# Altium integrated library TI Amplifiers and Linear Special Function Amplifier.IntLib: 708 symbols (part 44 of 47)
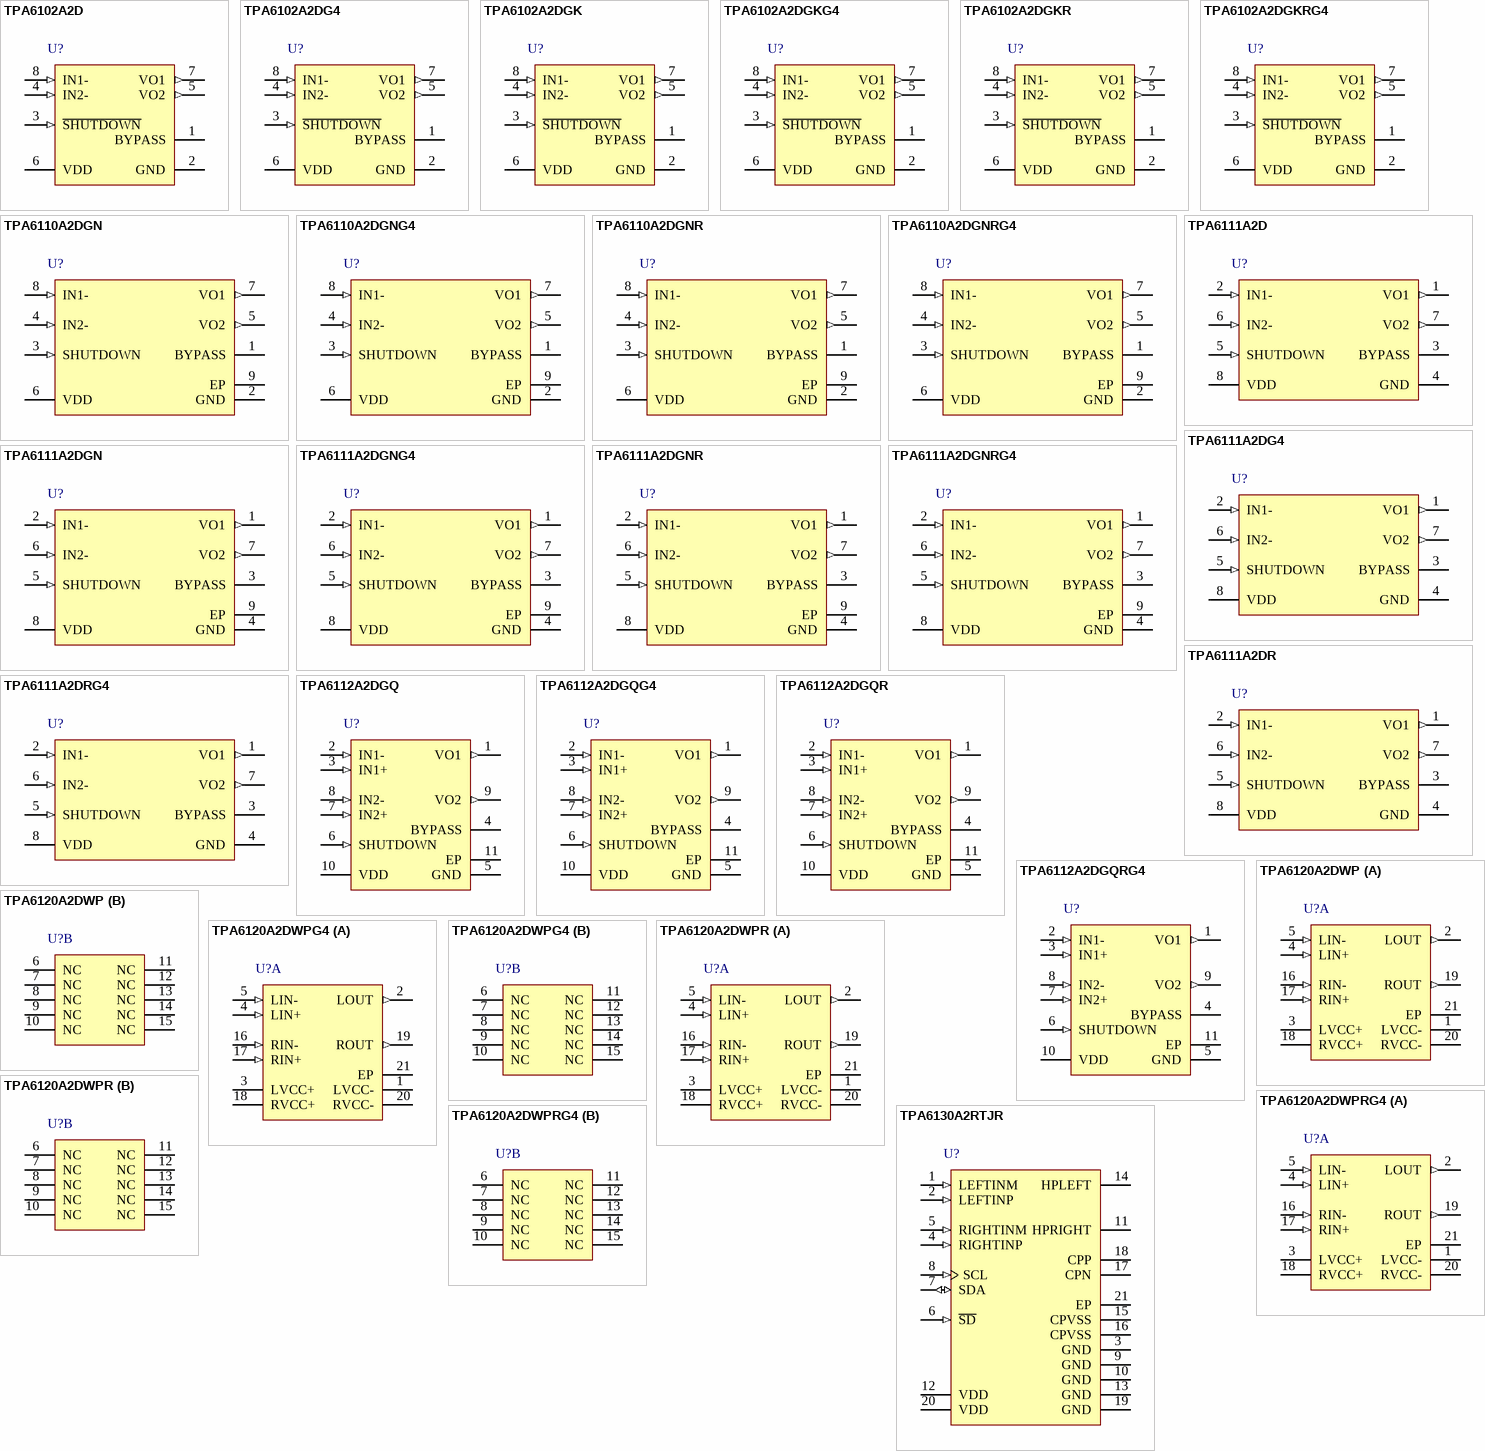
[diagram p82: symbols TPA6102A2D to TPA6130A2RTJR]

## TPA6102A2DGKRG4
designator U?
50-mW Ultra Low-Voltage, Stereo Headphone Audio Amplifier with Fixed Gain (14 dB), -40 to 85 degC, 8-pin SOP (DGK8), Green (RoHS & no Sb/Br); Manufacturer: Texas Instruments; PartNumber: TPA6102A2DGKRG4; ISD(uA): 0.05; Load(Min)(ohms): 16; PSRR(dB): 72; SubFamily: Headphone Amplifier; Supply Max(Max)(Volt): 3.6; Supply Min(Min)(Volt): 1.6; DatasheetVersion: SLOS324B; PackageVersion: 4073329/E, 05/2006; PackageReference: DGK8; PackageDescription: 8-Pin Thin Small Outline, Body 3 x 3 mm, Pitch 0.65 mm; Supplier 1: Digi-Key; Supplier Part Number 1: TPA6102A2DGKRG4-ND; Supplier 2: Newark; Supplier Part Number 2: 54K1502; Supplier 3: Mouser; Supplier Part Number 3: 595-TPA6102A2DGKRG4; Eco-Plan: Green (RoHS & no Sb/Br); Headphone Channels: Stereo; Output Power(W): 0.05; Mounting Technology: Surface Mount; Code_JEDEC: MO-187; ComponentLink1Description: Manufacturer URL; ComponentLink1URL: http://www.ti.com/; ComponentLink2Description: Datasheet; ComponentLink2URL: http://www.ti.com/general/docs/lit/getliterature.tsp?genericPartNumber=TPA6102A2&fileType=pdf; ComponentLink3Description: Package Specification; ComponentLink3URL: http://www.ti.com/litv/pdf/mpds028d
footprint TI-DGK8_N (SOP, 8-Leads, Body 3.1x3.1mm, Pitch 0.65mm, IPC Medium Density)
footprint TI-DGK8_L (SOP, 8-Leads, Body 3.1x3.1mm, Pitch 0.65mm, IPC High Density)
footprint TI-DGK8_M (SOP, 8-Leads, Body 3.1x3.1mm, Pitch 0.65mm, IPC Low Density)
pins: 1 BYPASS "Tap to voltage divider for internal mid-supply bias supply. BYPASS is set at VDD/4. Connect to a 0.1-uF to 1-uF low ESR capacitor for best performance.", 2 GND (power) "GND is the ground connection.", 3 ~{SHUTDOWN} (in) "Active-low input. When held low, the device is placed in a low supply current mode.", 4 IN2- (in) "IN2- is the inverting input for channel 2.", 5 VO2 (out) "VO2 is the audio output for channel 2.", 6 VDD (power) "VDD is the supply voltage terminal.", 7 VO1 (out) "VO1 is the audio output for channel 1.", 8 IN1- (in) "IN1- is the inverting input for channel 1."

## TPA6110A2DGN
designator U?
150-mW Stereo Headphone Audio Amplifier, Pin Compatible with LM4881, -40 to 85 degC, 8-pin SOP (DGN8), Green (RoHS & no Sb/Br); Manufacturer: Texas Instruments; PartNumber: TPA6110A2DGN; ISD(uA): 1; Load(Min)(ohms): 16; Output Power(W): 0.15; PSRR(dB): 83; SubFamily: Headphone Amplifier; Supply Max(Max)(Volt): 5.5; Supply Min(Min)(Volt): 2.5; DatasheetVersion: SLOS314B; PackageVersion: 4073271/F, 05/2011; PackageReference: DGN8-1760X1425TP; PackageDescription: 8-Pin Plastic Small Outline, Body 3 x 3 mm, Pitch 0.65 mm; Supplier 1: Digi-Key; Supplier Part Number 1: 296-10843-5-ND; Supplier 2: Newark; Supplier Part Number 2: 76C9841; Supplier 3: Mouser; Supplier Part Number 3: 595-TPA6110A2DGN; Eco-Plan: Green (RoHS & no Sb/Br); Headphone Channels: Stereo; Mounting Technology: Surface Mount; Code_JEDEC: MO-187; ComponentLink1Description: Manufacturer URL; ComponentLink1URL: http://www.ti.com/; ComponentLink2Description: Datasheet; ComponentLink2URL: http://www.ti.com/general/docs/lit/getliterature.tsp?genericPartNumber=TPA6110A2&fileType=pdf; ComponentLink3Description: Package Specification; ComponentLink3URL: http://www.ti.com/litv/pdf/mpds046e
footprint TI-DGN8-1760X1425TP_N (SOP, 8-Leads, Body 3.1x3.1mm, Pitch 0.65mm, Thermal Pad 1.89x1.57mm, IPC Medium Density)
footprint TI-DGN8-1760X1425TP_L (SOP, 8-Leads, Body 3.1x3.1mm, Pitch 0.65mm, Thermal Pad 1.89x1.57mm, IPC High Density)
footprint TI-DGN8-1760X1425TP_M (SOP, 8-Leads, Body 3.1x3.1mm, Pitch 0.65mm, Thermal Pad 1.89x1.57mm, IPC Low Density)
pins: 1 BYPASS "Tap to voltage divider for internal mid-supply bias supply. Connect to a 0.1 uF to 1 uF low ESR capacitor for best performance.", 2 GND (power) "GND is the ground connection.", 3 SHUTDOWN (in) "Puts the device in a low quiescent current mode when held high.", 4 IN2- (in) "IN2- is the inverting input for channel 2.", 5 VO2 (out) "VO2 is the audio output for channel 2.", 6 VDD (power) "VDD is the supply voltage terminal.", 7 VO1 (out) "VO1 is the audio output for channel 1.", 8 IN1- (in) "IN1- is the inverting input for channel 1.", 9 EP

## TPA6110A2DGNG4
designator U?
150-mW Stereo Headphone Audio Amplifier, Pin Compatible with LM4881, -40 to 85 degC, 8-pin SOP (DGN8), Green (RoHS & no Sb/Br); Manufacturer: Texas Instruments; PartNumber: TPA6110A2DGNG4; ISD(uA): 1; Load(Min)(ohms): 16; Output Power(W): 0.15; PSRR(dB): 83; SubFamily: Headphone Amplifier; Supply Max(Max)(Volt): 5.5; Supply Min(Min)(Volt): 2.5; DatasheetVersion: SLOS314B; PackageVersion: 4073271/F, 05/2011; PackageReference: DGN8-1760X1425TP; PackageDescription: 8-Pin Plastic Small Outline, Body 3 x 3 mm, Pitch 0.65 mm; Supplier 1: Digi-Key; Supplier Part Number 1: TPA6110A2DGNG4-ND; Supplier 2: Newark; Supplier Part Number 2: 58K6879; Supplier 3: Mouser; Supplier Part Number 3: 595-TPA6110A2DGNG4; Eco-Plan: Green (RoHS & no Sb/Br); Headphone Channels: Stereo; Mounting Technology: Surface Mount; Code_JEDEC: MO-187; ComponentLink1Description: Manufacturer URL; ComponentLink1URL: http://www.ti.com/; ComponentLink2Description: Datasheet; ComponentLink2URL: http://www.ti.com/general/docs/lit/getliterature.tsp?genericPartNumber=TPA6110A2&fileType=pdf; ComponentLink3Description: Package Specification; ComponentLink3URL: http://www.ti.com/litv/pdf/mpds046e
footprint TI-DGN8-1760X1425TP_N (SOP, 8-Leads, Body 3.1x3.1mm, Pitch 0.65mm, Thermal Pad 1.89x1.57mm, IPC Medium Density)
footprint TI-DGN8-1760X1425TP_L (SOP, 8-Leads, Body 3.1x3.1mm, Pitch 0.65mm, Thermal Pad 1.89x1.57mm, IPC High Density)
footprint TI-DGN8-1760X1425TP_M (SOP, 8-Leads, Body 3.1x3.1mm, Pitch 0.65mm, Thermal Pad 1.89x1.57mm, IPC Low Density)
pins: 1 BYPASS "Tap to voltage divider for internal mid-supply bias supply. Connect to a 0.1 uF to 1 uF low ESR capacitor for best performance.", 2 GND (power) "GND is the ground connection.", 3 SHUTDOWN (in) "Puts the device in a low quiescent current mode when held high.", 4 IN2- (in) "IN2- is the inverting input for channel 2.", 5 VO2 (out) "VO2 is the audio output for channel 2.", 6 VDD (power) "VDD is the supply voltage terminal.", 7 VO1 (out) "VO1 is the audio output for channel 1.", 8 IN1- (in) "IN1- is the inverting input for channel 1.", 9 EP

## TPA6110A2DGNR
designator U?
150-mW Stereo Headphone Audio Amplifier, Pin Compatible with LM4881, -40 to 85 degC, 8-pin SOP (DGN8), Green (RoHS & no Sb/Br); Manufacturer: Texas Instruments; PartNumber: TPA6110A2DGNR; ISD(uA): 1; Load(Min)(ohms): 16; Output Power(W): 0.15; PSRR(dB): 83; SubFamily: Headphone Amplifier; Supply Max(Max)(Volt): 5.5; Supply Min(Min)(Volt): 2.5; DatasheetVersion: SLOS314B; PackageVersion: 4073271/F, 05/2011; PackageReference: DGN8-1760X1425TP; PackageDescription: 8-Pin Plastic Small Outline, Body 3 x 3 mm, Pitch 0.65 mm; Supplier 1: Digi-Key; Supplier Part Number 1: 296-31976-2-ND; Supplier 2: Digi-Key; Supplier Part Number 2: 296-31976-1-ND; Supplier 3: Digi-Key; Supplier Part Number 3: 296-31976-6-ND; Supplier 4: Newark; Supplier Part Number 4: 76C9842; Supplier 5: Mouser; Supplier Part Number 5: 595-TPA6110A2DGNR; Eco-Plan: Green (RoHS & no Sb/Br); Headphone Channels: Stereo; Mounting Technology: Surface Mount; Code_JEDEC: MO-187; ComponentLink1Description: Manufacturer URL; ComponentLink1URL: http://www.ti.com/; ComponentLink2Description: Datasheet; ComponentLink2URL: http://www.ti.com/general/docs/lit/getliterature.tsp?genericPartNumber=TPA6110A2&fileType=pdf; ComponentLink3Description: Package Specification; ComponentLink3URL: http://www.ti.com/litv/pdf/mpds046e
footprint TI-DGN8-1760X1425TP_N (SOP, 8-Leads, Body 3.1x3.1mm, Pitch 0.65mm, Thermal Pad 1.89x1.57mm, IPC Medium Density)
footprint TI-DGN8-1760X1425TP_L (SOP, 8-Leads, Body 3.1x3.1mm, Pitch 0.65mm, Thermal Pad 1.89x1.57mm, IPC High Density)
footprint TI-DGN8-1760X1425TP_M (SOP, 8-Leads, Body 3.1x3.1mm, Pitch 0.65mm, Thermal Pad 1.89x1.57mm, IPC Low Density)
pins: 1 BYPASS "Tap to voltage divider for internal mid-supply bias supply. Connect to a 0.1 uF to 1 uF low ESR capacitor for best performance.", 2 GND (power) "GND is the ground connection.", 3 SHUTDOWN (in) "Puts the device in a low quiescent current mode when held high.", 4 IN2- (in) "IN2- is the inverting input for channel 2.", 5 VO2 (out) "VO2 is the audio output for channel 2.", 6 VDD (power) "VDD is the supply voltage terminal.", 7 VO1 (out) "VO1 is the audio output for channel 1.", 8 IN1- (in) "IN1- is the inverting input for channel 1.", 9 EP

## TPA6110A2DGNRG4
designator U?
150-mW Stereo Headphone Audio Amplifier, Pin Compatible with LM4881, -40 to 85 degC, 8-pin SOP (DGN8), Green (RoHS & no Sb/Br); Manufacturer: Texas Instruments; PartNumber: TPA6110A2DGNRG4; ISD(uA): 1; Load(Min)(ohms): 16; Output Power(W): 0.15; PSRR(dB): 83; SubFamily: Headphone Amplifier; Supply Max(Max)(Volt): 5.5; Supply Min(Min)(Volt): 2.5; DatasheetVersion: SLOS314B; PackageVersion: 4073271/F, 05/2011; PackageReference: DGN8-1760X1425TP; PackageDescription: 8-Pin Plastic Small Outline, Body 3 x 3 mm, Pitch 0.65 mm; Supplier 1: Digi-Key; Supplier Part Number 1: TPA6110A2DGNRG4-ND; Supplier 2: Newark; Supplier Part Number 2: 24K5790; Supplier 3: Mouser; Supplier Part Number 3: 595-TPA6110A2DGNRG4; Eco-Plan: Green (RoHS & no Sb/Br); Headphone Channels: Stereo; Mounting Technology: Surface Mount; Code_JEDEC: MO-187; ComponentLink1Description: Manufacturer URL; ComponentLink1URL: http://www.ti.com/; ComponentLink2Description: Datasheet; ComponentLink2URL: http://www.ti.com/general/docs/lit/getliterature.tsp?genericPartNumber=TPA6110A2&fileType=pdf; ComponentLink3Description: Package Specification; ComponentLink3URL: http://www.ti.com/litv/pdf/mpds046e
footprint TI-DGN8-1760X1425TP_N (SOP, 8-Leads, Body 3.1x3.1mm, Pitch 0.65mm, Thermal Pad 1.89x1.57mm, IPC Medium Density)
footprint TI-DGN8-1760X1425TP_L (SOP, 8-Leads, Body 3.1x3.1mm, Pitch 0.65mm, Thermal Pad 1.89x1.57mm, IPC High Density)
footprint TI-DGN8-1760X1425TP_M (SOP, 8-Leads, Body 3.1x3.1mm, Pitch 0.65mm, Thermal Pad 1.89x1.57mm, IPC Low Density)
pins: 1 BYPASS "Tap to voltage divider for internal mid-supply bias supply. Connect to a 0.1 uF to 1 uF low ESR capacitor for best performance.", 2 GND (power) "GND is the ground connection.", 3 SHUTDOWN (in) "Puts the device in a low quiescent current mode when held high.", 4 IN2- (in) "IN2- is the inverting input for channel 2.", 5 VO2 (out) "VO2 is the audio output for channel 2.", 6 VDD (power) "VDD is the supply voltage terminal.", 7 VO1 (out) "VO1 is the audio output for channel 1.", 8 IN1- (in) "IN1- is the inverting input for channel 1.", 9 EP

## TPA6111A2D
designator U?
150-mW Stereo Headphone Audio Amplifier, Pin Compatible with LM4880 and LM4881, -40 to 85 degC, 8-pin SOIC (D8), Green (RoHS & no Sb/Br); Manufacturer: Texas Instruments; PartNumber: TPA6111A2D; ISD(uA): 1; Load(Min)(ohms): 16; Output Power(W): 0.15; PSRR(dB): 70; SubFamily: Headphone Amplifier; Supply Max(Max)(Volt): 5.5; Supply Min(Min)(Volt): 2.5; DatasheetVersion: SLOS313B; PackageVersion: 4040047-3/M, 06/2011; PackageReference: D8; PackageDescription: 8-Pin Plastic Small Outline, Body 4.9 x 3.9 mm, Pitch 1.27 mm; Supplier 1: Digi-Key; Supplier Part Number 1: 296-26887-5-ND; Supplier 2: Farnell; Supplier Part Number 2: 8456593; Supplier 3: Newark; Supplier Part Number 3: 38K8607; Supplier 4: Newark; Supplier Part Number 4: 76C9844; Supplier 5: Mouser; Supplier Part Number 5: 595-TPA6111A2D; Eco-Plan: Green (RoHS & no Sb/Br); Headphone Channels: Stereo; Mounting Technology: Surface Mount; Code_JEDEC: MS-012; ComponentLink1Description: Manufacturer URL; ComponentLink1URL: http://www.ti.com/; ComponentLink2Description: Datasheet; ComponentLink2URL: http://www.ti.com/general/docs/lit/getliterature.tsp?genericPartNumber=TPA6111A2&fileType=pdf; ComponentLink3Description: Package Specification; ComponentLink3URL: http://www.ti.com/litv/pdf/msoi002j
footprint TI-D8_N (SOIC, 8-Leads, Body 5x4mm, Pitch 1.27mm, IPC Medium Density)
footprint TI-D8_L (SOIC, 8-Leads, Body 5x4mm, Pitch 1.27mm, IPC High Density)
footprint TI-D8_M (SOIC, 8-Leads, Body 5x4mm, Pitch 1.27mm, IPC Low Density)
pins: 1 VO1 (out) "VO1 is the audio output for channel 1.", 2 IN1- (in) "IN1- is the inverting input for channel 1.", 3 BYPASS "Tap to voltage divider for internal mid-supply bias supply. Connect to a 0.1 uF to 1 uF low ESR capacitor for best performance.", 4 GND (power) "GND is the ground connection.", 5 SHUTDOWN (in) "Puts the device in a low quiescent current mode when held high", 6 IN2- (in) "IN2- is the inverting input for channel 2.", 7 VO2 (out) "VO2 is the audio output for channel 2.", 8 VDD (power) "VDD is the supply voltage terminal."

## TPA6111A2DG4
designator U?
150-mW Stereo Headphone Audio Amplifier, Pin Compatible with LM4880 and LM4881, -40 to 85 degC, 8-pin SOIC (D8), Green (RoHS & no Sb/Br); Manufacturer: Texas Instruments; PartNumber: TPA6111A2DG4; ISD(uA): 1; Load(Min)(ohms): 16; Output Power(W): 0.15; PSRR(dB): 70; SubFamily: Headphone Amplifier; Supply Max(Max)(Volt): 5.5; Supply Min(Min)(Volt): 2.5; DatasheetVersion: SLOS313B; PackageVersion: 4040047-3/M, 06/2011; PackageReference: D8; PackageDescription: 8-Pin Plastic Small Outline, Body 4.9 x 3.9 mm, Pitch 1.27 mm; Supplier 1: Digi-Key; Supplier Part Number 1: TPA6111A2DG4-ND; Supplier 2: Mouser; Supplier Part Number 2: 595-TPA6111A2DG4; Eco-Plan: Green (RoHS & no Sb/Br); Headphone Channels: Stereo; Mounting Technology: Surface Mount; Code_JEDEC: MS-012; ComponentLink1Description: Manufacturer URL; ComponentLink1URL: http://www.ti.com/; ComponentLink2Description: Datasheet; ComponentLink2URL: http://www.ti.com/general/docs/lit/getliterature.tsp?genericPartNumber=TPA6111A2&fileType=pdf; ComponentLink3Description: Package Specification; ComponentLink3URL: http://www.ti.com/litv/pdf/msoi002j
footprint TI-D8_N (SOIC, 8-Leads, Body 5x4mm, Pitch 1.27mm, IPC Medium Density)
footprint TI-D8_L (SOIC, 8-Leads, Body 5x4mm, Pitch 1.27mm, IPC High Density)
footprint TI-D8_M (SOIC, 8-Leads, Body 5x4mm, Pitch 1.27mm, IPC Low Density)
pins: 1 VO1 (out) "VO1 is the audio output for channel 1.", 2 IN1- (in) "IN1- is the inverting input for channel 1.", 3 BYPASS "Tap to voltage divider for internal mid-supply bias supply. Connect to a 0.1 uF to 1 uF low ESR capacitor for best performance.", 4 GND (power) "GND is the ground connection.", 5 SHUTDOWN (in) "Puts the device in a low quiescent current mode when held high", 6 IN2- (in) "IN2- is the inverting input for channel 2.", 7 VO2 (out) "VO2 is the audio output for channel 2.", 8 VDD (power) "VDD is the supply voltage terminal."

## TPA6111A2DGN
designator U?
150-mW Stereo Headphone Audio Amplifier, Pin Compatible with LM4880 and LM4881, -40 to 85 degC, 8-pin SOP (DGN8), Green (RoHS & no Sb/Br); Manufacturer: Texas Instruments; PartNumber: TPA6111A2DGN; ISD(uA): 1; Load(Min)(ohms): 16; Output Power(W): 0.15; PSRR(dB): 70; SubFamily: Headphone Amplifier; Supply Max(Max)(Volt): 5.5; Supply Min(Min)(Volt): 2.5; DatasheetVersion: SLOS313B; PackageVersion: 4073271/F, 05/2011; PackageReference: DGN8-1760X1425TP; PackageDescription: 8-Pin Plastic Small Outline, Body 3 x 3 mm, Pitch 0.65 mm; Supplier 1: Digi-Key; Supplier Part Number 1: 296-10845-5-ND; Supplier 2: Newark; Supplier Part Number 2: 76C9845; Supplier 3: Mouser; Supplier Part Number 3: 595-TPA6111A2DGN; Eco-Plan: Green (RoHS & no Sb/Br); Headphone Channels: Stereo; Mounting Technology: Surface Mount; Code_JEDEC: MO-187; ComponentLink1Description: Manufacturer URL; ComponentLink1URL: http://www.ti.com/; ComponentLink2Description: Datasheet; ComponentLink2URL: http://www.ti.com/general/docs/lit/getliterature.tsp?genericPartNumber=TPA6111A2&fileType=pdf; ComponentLink3Description: Package Specification; ComponentLink3URL: http://www.ti.com/litv/pdf/mpds046e
footprint TI-DGN8-1760X1425TP_N (SOP, 8-Leads, Body 3.1x3.1mm, Pitch 0.65mm, Thermal Pad 1.89x1.57mm, IPC Medium Density)
footprint TI-DGN8-1760X1425TP_L (SOP, 8-Leads, Body 3.1x3.1mm, Pitch 0.65mm, Thermal Pad 1.89x1.57mm, IPC High Density)
footprint TI-DGN8-1760X1425TP_M (SOP, 8-Leads, Body 3.1x3.1mm, Pitch 0.65mm, Thermal Pad 1.89x1.57mm, IPC Low Density)
pins: 1 VO1 (out) "VO1 is the audio output for channel 1.", 2 IN1- (in) "IN1- is the inverting input for channel 1.", 3 BYPASS "Tap to voltage divider for internal mid-supply bias supply. Connect to a 0.1 uF to 1 uF low ESR capacitor for best performance.", 4 GND (power) "GND is the ground connection.", 5 SHUTDOWN (in) "Puts the device in a low quiescent current mode when held high", 6 IN2- (in) "IN2- is the inverting input for channel 2.", 7 VO2 (out) "VO2 is the audio output for channel 2.", 8 VDD (power) "VDD is the supply voltage terminal.", 9 EP

## TPA6111A2DGNG4
designator U?
150-mW Stereo Headphone Audio Amplifier, Pin Compatible with LM4880 and LM4881, -40 to 85 degC, 8-pin SOP (DGN8), Green (RoHS & no Sb/Br); Manufacturer: Texas Instruments; PartNumber: TPA6111A2DGNG4; ISD(uA): 1; Load(Min)(ohms): 16; Output Power(W): 0.15; PSRR(dB): 70; SubFamily: Headphone Amplifier; Supply Max(Max)(Volt): 5.5; Supply Min(Min)(Volt): 2.5; DatasheetVersion: SLOS313B; PackageVersion: 4073271/F, 05/2011; PackageReference: DGN8-1760X1425TP; PackageDescription: 8-Pin Plastic Small Outline, Body 3 x 3 mm, Pitch 0.65 mm; Supplier 1: Digi-Key; Supplier Part Number 1: TPA6111A2DGNG4-ND; Supplier 2: Mouser; Supplier Part Number 2: 595-TPA6111A2DGNG4; Eco-Plan: Green (RoHS & no Sb/Br); Headphone Channels: Stereo; Mounting Technology: Surface Mount; Code_JEDEC: MO-187; ComponentLink1Description: Manufacturer URL; ComponentLink1URL: http://www.ti.com/; ComponentLink2Description: Datasheet; ComponentLink2URL: http://www.ti.com/general/docs/lit/getliterature.tsp?genericPartNumber=TPA6111A2&fileType=pdf; ComponentLink3Description: Package Specification; ComponentLink3URL: http://www.ti.com/litv/pdf/mpds046e
footprint TI-DGN8-1760X1425TP_N (SOP, 8-Leads, Body 3.1x3.1mm, Pitch 0.65mm, Thermal Pad 1.89x1.57mm, IPC Medium Density)
footprint TI-DGN8-1760X1425TP_L (SOP, 8-Leads, Body 3.1x3.1mm, Pitch 0.65mm, Thermal Pad 1.89x1.57mm, IPC High Density)
footprint TI-DGN8-1760X1425TP_M (SOP, 8-Leads, Body 3.1x3.1mm, Pitch 0.65mm, Thermal Pad 1.89x1.57mm, IPC Low Density)
pins: 1 VO1 (out) "VO1 is the audio output for channel 1.", 2 IN1- (in) "IN1- is the inverting input for channel 1.", 3 BYPASS "Tap to voltage divider for internal mid-supply bias supply. Connect to a 0.1 uF to 1 uF low ESR capacitor for best performance.", 4 GND (power) "GND is the ground connection.", 5 SHUTDOWN (in) "Puts the device in a low quiescent current mode when held high", 6 IN2- (in) "IN2- is the inverting input for channel 2.", 7 VO2 (out) "VO2 is the audio output for channel 2.", 8 VDD (power) "VDD is the supply voltage terminal.", 9 EP

## TPA6111A2DGNR
designator U?
150-mW Stereo Headphone Audio Amplifier, Pin Compatible with LM4880 and LM4881, -40 to 85 degC, 8-pin SOP (DGN8), Green (RoHS & no Sb/Br); Manufacturer: Texas Instruments; PartNumber: TPA6111A2DGNR; ISD(uA): 1; Load(Min)(ohms): 16; Output Power(W): 0.15; PSRR(dB): 70; SubFamily: Headphone Amplifier; Supply Max(Max)(Volt): 5.5; Supply Min(Min)(Volt): 2.5; DatasheetVersion: SLOS313B; PackageVersion: 4073271/F, 05/2011; PackageReference: DGN8-1760X1425TP; PackageDescription: 8-Pin Plastic Small Outline, Body 3 x 3 mm, Pitch 0.65 mm; Supplier 1: Digi-Key; Supplier Part Number 1: TPA6111A2DGNR-ND; Supplier 2: Newark; Supplier Part Number 2: 76C9846; Supplier 3: Mouser; Supplier Part Number 3: 595-TPA6111A2DGNR; Eco-Plan: Green (RoHS & no Sb/Br); Headphone Channels: Stereo; Mounting Technology: Surface Mount; Code_JEDEC: MO-187; ComponentLink1Description: Manufacturer URL; ComponentLink1URL: http://www.ti.com/; ComponentLink2Description: Datasheet; ComponentLink2URL: http://www.ti.com/general/docs/lit/getliterature.tsp?genericPartNumber=TPA6111A2&fileType=pdf; ComponentLink3Description: Package Specification; ComponentLink3URL: http://www.ti.com/litv/pdf/mpds046e
footprint TI-DGN8-1760X1425TP_N (SOP, 8-Leads, Body 3.1x3.1mm, Pitch 0.65mm, Thermal Pad 1.89x1.57mm, IPC Medium Density)
footprint TI-DGN8-1760X1425TP_L (SOP, 8-Leads, Body 3.1x3.1mm, Pitch 0.65mm, Thermal Pad 1.89x1.57mm, IPC High Density)
footprint TI-DGN8-1760X1425TP_M (SOP, 8-Leads, Body 3.1x3.1mm, Pitch 0.65mm, Thermal Pad 1.89x1.57mm, IPC Low Density)
pins: 1 VO1 (out) "VO1 is the audio output for channel 1.", 2 IN1- (in) "IN1- is the inverting input for channel 1.", 3 BYPASS "Tap to voltage divider for internal mid-supply bias supply. Connect to a 0.1 uF to 1 uF low ESR capacitor for best performance.", 4 GND (power) "GND is the ground connection.", 5 SHUTDOWN (in) "Puts the device in a low quiescent current mode when held high", 6 IN2- (in) "IN2- is the inverting input for channel 2.", 7 VO2 (out) "VO2 is the audio output for channel 2.", 8 VDD (power) "VDD is the supply voltage terminal.", 9 EP

## TPA6111A2DGNRG4
designator U?
150-mW Stereo Headphone Audio Amplifier, Pin Compatible with LM4880 and LM4881, -40 to 85 degC, 8-pin SOP (DGN8), Green (RoHS & no Sb/Br); Manufacturer: Texas Instruments; PartNumber: TPA6111A2DGNRG4; ISD(uA): 1; Load(Min)(ohms): 16; Output Power(W): 0.15; PSRR(dB): 70; SubFamily: Headphone Amplifier; Supply Max(Max)(Volt): 5.5; Supply Min(Min)(Volt): 2.5; DatasheetVersion: SLOS313B; PackageVersion: 4073271/F, 05/2011; PackageReference: DGN8-1760X1425TP; PackageDescription: 8-Pin Plastic Small Outline, Body 3 x 3 mm, Pitch 0.65 mm; Supplier 1: Digi-Key; Supplier Part Number 1: TPA6111A2DGNRG4-ND; Supplier 2: Mouser; Supplier Part Number 2: 595-TPA6111A2DGNRG4; Eco-Plan: Green (RoHS & no Sb/Br); Headphone Channels: Stereo; Mounting Technology: Surface Mount; Code_JEDEC: MO-187; ComponentLink1Description: Manufacturer URL; ComponentLink1URL: http://www.ti.com/; ComponentLink2Description: Datasheet; ComponentLink2URL: http://www.ti.com/general/docs/lit/getliterature.tsp?genericPartNumber=TPA6111A2&fileType=pdf; ComponentLink3Description: Package Specification; ComponentLink3URL: http://www.ti.com/litv/pdf/mpds046e
footprint TI-DGN8-1760X1425TP_N (SOP, 8-Leads, Body 3.1x3.1mm, Pitch 0.65mm, Thermal Pad 1.89x1.57mm, IPC Medium Density)
footprint TI-DGN8-1760X1425TP_L (SOP, 8-Leads, Body 3.1x3.1mm, Pitch 0.65mm, Thermal Pad 1.89x1.57mm, IPC High Density)
footprint TI-DGN8-1760X1425TP_M (SOP, 8-Leads, Body 3.1x3.1mm, Pitch 0.65mm, Thermal Pad 1.89x1.57mm, IPC Low Density)
pins: 1 VO1 (out) "VO1 is the audio output for channel 1.", 2 IN1- (in) "IN1- is the inverting input for channel 1.", 3 BYPASS "Tap to voltage divider for internal mid-supply bias supply. Connect to a 0.1 uF to 1 uF low ESR capacitor for best performance.", 4 GND (power) "GND is the ground connection.", 5 SHUTDOWN (in) "Puts the device in a low quiescent current mode when held high", 6 IN2- (in) "IN2- is the inverting input for channel 2.", 7 VO2 (out) "VO2 is the audio output for channel 2.", 8 VDD (power) "VDD is the supply voltage terminal.", 9 EP

## TPA6111A2DR
designator U?
150-mW Stereo Headphone Audio Amplifier, Pin Compatible with LM4880 and LM4881, -40 to 85 degC, 8-pin SOIC (D8), Green (RoHS & no Sb/Br); Manufacturer: Texas Instruments; PartNumber: TPA6111A2DR; ISD(uA): 1; Load(Min)(ohms): 16; Output Power(W): 0.15; PSRR(dB): 70; SubFamily: Headphone Amplifier; Supply Max(Max)(Volt): 5.5; Supply Min(Min)(Volt): 2.5; DatasheetVersion: SLOS313B; PackageVersion: 4040047-3/M, 06/2011; PackageReference: D8; PackageDescription: 8-Pin Plastic Small Outline, Body 4.9 x 3.9 mm, Pitch 1.27 mm; Supplier 1: Digi-Key; Supplier Part Number 1: 296-10846-2-ND; Supplier 2: Digi-Key; Supplier Part Number 2: 296-10846-1-ND; Supplier 3: Digi-Key; Supplier Part Number 3: 296-10846-6-ND; Supplier 4: Newark; Supplier Part Number 4: 86W6773; Supplier 5: Newark; Supplier Part Number 5: 76C9847; Supplier 6: Mouser; Supplier Part Number 6: 595-TPA6111A2DR; Eco-Plan: Green (RoHS & no Sb/Br); Headphone Channels: Stereo; Mounting Technology: Surface Mount; Code_JEDEC: MS-012; ComponentLink1Description: Manufacturer URL; ComponentLink1URL: http://www.ti.com/; ComponentLink2Description: Datasheet; ComponentLink2URL: http://www.ti.com/general/docs/lit/getliterature.tsp?genericPartNumber=TPA6111A2&fileType=pdf; ComponentLink3Description: Package Specification; ComponentLink3URL: http://www.ti.com/litv/pdf/msoi002j
footprint TI-D8_N (SOIC, 8-Leads, Body 5x4mm, Pitch 1.27mm, IPC Medium Density)
footprint TI-D8_L (SOIC, 8-Leads, Body 5x4mm, Pitch 1.27mm, IPC High Density)
footprint TI-D8_M (SOIC, 8-Leads, Body 5x4mm, Pitch 1.27mm, IPC Low Density)
pins: 1 VO1 (out) "VO1 is the audio output for channel 1.", 2 IN1- (in) "IN1- is the inverting input for channel 1.", 3 BYPASS "Tap to voltage divider for internal mid-supply bias supply. Connect to a 0.1 uF to 1 uF low ESR capacitor for best performance.", 4 GND (power) "GND is the ground connection.", 5 SHUTDOWN (in) "Puts the device in a low quiescent current mode when held high", 6 IN2- (in) "IN2- is the inverting input for channel 2.", 7 VO2 (out) "VO2 is the audio output for channel 2.", 8 VDD (power) "VDD is the supply voltage terminal."

## TPA6111A2DRG4
designator U?
150-mW Stereo Headphone Audio Amplifier, Pin Compatible with LM4880 and LM4881, -40 to 85 degC, 8-pin SOIC (D8), Green (RoHS & no Sb/Br); Manufacturer: Texas Instruments; PartNumber: TPA6111A2DRG4; ISD(uA): 1; Load(Min)(ohms): 16; Output Power(W): 0.15; PSRR(dB): 70; SubFamily: Headphone Amplifier; Supply Max(Max)(Volt): 5.5; Supply Min(Min)(Volt): 2.5; DatasheetVersion: SLOS313B; PackageVersion: 4040047-3/M, 06/2011; PackageReference: D8; PackageDescription: 8-Pin Plastic Small Outline, Body 4.9 x 3.9 mm, Pitch 1.27 mm; Supplier 1: Digi-Key; Supplier Part Number 1: TPA6111A2DRG4-ND; Supplier 2: Mouser; Supplier Part Number 2: 595-TPA6111A2DRG4; Eco-Plan: Green (RoHS & no Sb/Br); Headphone Channels: Stereo; Mounting Technology: Surface Mount; Code_JEDEC: MS-012; ComponentLink1Description: Manufacturer URL; ComponentLink1URL: http://www.ti.com/; ComponentLink2Description: Datasheet; ComponentLink2URL: http://www.ti.com/general/docs/lit/getliterature.tsp?genericPartNumber=TPA6111A2&fileType=pdf; ComponentLink3Description: Package Specification; ComponentLink3URL: http://www.ti.com/litv/pdf/msoi002j
footprint TI-D8_N (SOIC, 8-Leads, Body 5x4mm, Pitch 1.27mm, IPC Medium Density)
footprint TI-D8_L (SOIC, 8-Leads, Body 5x4mm, Pitch 1.27mm, IPC High Density)
footprint TI-D8_M (SOIC, 8-Leads, Body 5x4mm, Pitch 1.27mm, IPC Low Density)
pins: 1 VO1 (out) "VO1 is the audio output for channel 1.", 2 IN1- (in) "IN1- is the inverting input for channel 1.", 3 BYPASS "Tap to voltage divider for internal mid-supply bias supply. Connect to a 0.1 uF to 1 uF low ESR capacitor for best performance.", 4 GND (power) "GND is the ground connection.", 5 SHUTDOWN (in) "Puts the device in a low quiescent current mode when held high", 6 IN2- (in) "IN2- is the inverting input for channel 2.", 7 VO2 (out) "VO2 is the audio output for channel 2.", 8 VDD (power) "VDD is the supply voltage terminal."

## TPA6112A2DGQ
designator U?
150-mW Stereo Headphone Audio Amplifier with Differential Input, -40 to 85 degC, 10-pin SOP (DGQ10), Green (RoHS & no Sb/Br); Manufacturer: Texas Instruments; PartNumber: TPA6112A2DGQ; ISD(uA): 10; Load(Min)(ohms): 16; Output Power(W): 0.15; PSRR(dB): 83; SubFamily: Headphone Amplifier; Supply Max(Max)(Volt): 5.5; Supply Min(Min)(Volt): 2.5; DatasheetVersion: SLOS342A; PackageVersion: 4073273/F, 11/2011; PackageReference: DGQ10-1675X1445TP; PackageDescription: 10-Pin Plastic Small Outline, Body 3 x 3 mm, Pitch 0.5 mm; Supplier 1: Digi-Key; Supplier Part Number 1: 296-34560-5-ND; Supplier 2: Newark; Supplier Part Number 2: 76C9849; Supplier 3: Mouser; Supplier Part Number 3: 595-TPA6112A2DGQ; Eco-Plan: Green (RoHS & no Sb/Br); Headphone Channels: Stereo; Mounting Technology: Surface Mount; Code_JEDEC: MO-187; ComponentLink1Description: Manufacturer URL; ComponentLink1URL: http://www.ti.com/; ComponentLink2Description: Datasheet; ComponentLink2URL: http://www.ti.com/general/docs/lit/getliterature.tsp?genericPartNumber=TPA6112A2&fileType=pdf; ComponentLink3Description: Package Specification; ComponentLink3URL: http://www.ti.com/litv/pdf/mpds043e
footprint TI-DGQ10-1675X1445TP_N (SOP, 10-Leads, Body 3.1x3.1mm, Pitch 0.5mm, Thermal Pad 1.88x1.57mm, IPC Medium Density)
footprint TI-DGQ10-1675X1445TP_L (SOP, 10-Leads, Body 3.1x3.1mm, Pitch 0.5mm, Thermal Pad 1.88x1.57mm, IPC High Density)
footprint TI-DGQ10-1675X1445TP_M (SOP, 10-Leads, Body 3.1x3.1mm, Pitch 0.5mm, Thermal Pad 1.88x1.57mm, IPC Low Density)
pins: 1 VO1 (out) "VO1 is the audio output for channel 1.", 2 IN1- (in) "IN1- is the negative input for channel 1.", 3 IN1+ (in) "IN1+ is the positive input for channel 1.", 4 BYPASS "Tap to voltage divider for internal mid-supply bias supply. Connect to a 0.1 uF to 1 uF low ESR capacitor for best performance.", 5 GND (power) "GND is the ground connection.", 6 SHUTDOWN (in) "Puts the device in a low quiescent current mode when held high.", 7 IN2+ (in) "IN2+ is the positive input for channel 2.", 8 IN2- (in) "IN2- is the negative input for channel 2.", 9 VO2 (out) "VO2 is the audio output for channel 2.", 10 VDD (power) "VDD is the supply voltage terminal.", 11 EP

## TPA6112A2DGQG4
designator U?
150-mW Stereo Headphone Audio Amplifier with Differential Input, -40 to 85 degC, 10-pin SOP (DGQ10), Green (RoHS & no Sb/Br); Manufacturer: Texas Instruments; PartNumber: TPA6112A2DGQG4; ISD(uA): 10; Load(Min)(ohms): 16; Output Power(W): 0.15; PSRR(dB): 83; SubFamily: Headphone Amplifier; Supply Max(Max)(Volt): 5.5; Supply Min(Min)(Volt): 2.5; DatasheetVersion: SLOS342A; PackageVersion: 4073273/F, 11/2011; PackageReference: DGQ10-1675X1445TP; PackageDescription: 10-Pin Plastic Small Outline, Body 3 x 3 mm, Pitch 0.5 mm; Supplier 1: Digi-Key; Supplier Part Number 1: TPA6112A2DGQG4-ND; Supplier 2: Newark; Supplier Part Number 2: 54K1505; Supplier 3: Mouser; Supplier Part Number 3: 595-TPA6112A2DGQG4; Eco-Plan: Green (RoHS & no Sb/Br); Headphone Channels: Stereo; Mounting Technology: Surface Mount; Code_JEDEC: MO-187; ComponentLink1Description: Manufacturer URL; ComponentLink1URL: http://www.ti.com/; ComponentLink2Description: Datasheet; ComponentLink2URL: http://www.ti.com/general/docs/lit/getliterature.tsp?genericPartNumber=TPA6112A2&fileType=pdf; ComponentLink3Description: Package Specification; ComponentLink3URL: http://www.ti.com/litv/pdf/mpds043e
footprint TI-DGQ10-1675X1445TP_N (SOP, 10-Leads, Body 3.1x3.1mm, Pitch 0.5mm, Thermal Pad 1.88x1.57mm, IPC Medium Density)
footprint TI-DGQ10-1675X1445TP_L (SOP, 10-Leads, Body 3.1x3.1mm, Pitch 0.5mm, Thermal Pad 1.88x1.57mm, IPC High Density)
footprint TI-DGQ10-1675X1445TP_M (SOP, 10-Leads, Body 3.1x3.1mm, Pitch 0.5mm, Thermal Pad 1.88x1.57mm, IPC Low Density)
pins: 1 VO1 (out) "VO1 is the audio output for channel 1.", 2 IN1- (in) "IN1- is the negative input for channel 1.", 3 IN1+ (in) "IN1+ is the positive input for channel 1.", 4 BYPASS "Tap to voltage divider for internal mid-supply bias supply. Connect to a 0.1 uF to 1 uF low ESR capacitor for best performance.", 5 GND (power) "GND is the ground connection.", 6 SHUTDOWN (in) "Puts the device in a low quiescent current mode when held high.", 7 IN2+ (in) "IN2+ is the positive input for channel 2.", 8 IN2- (in) "IN2- is the negative input for channel 2.", 9 VO2 (out) "VO2 is the audio output for channel 2.", 10 VDD (power) "VDD is the supply voltage terminal.", 11 EP

## TPA6112A2DGQR
designator U?
150-mW Stereo Headphone Audio Amplifier with Differential Input, -40 to 85 degC, 10-pin SOP (DGQ10), Green (RoHS & no Sb/Br); Manufacturer: Texas Instruments; PartNumber: TPA6112A2DGQR; ISD(uA): 10; Load(Min)(ohms): 16; Output Power(W): 0.15; PSRR(dB): 83; SubFamily: Headphone Amplifier; Supply Max(Max)(Volt): 5.5; Supply Min(Min)(Volt): 2.5; DatasheetVersion: SLOS342A; PackageVersion: 4073273/F, 11/2011; PackageReference: DGQ10-1675X1445TP; PackageDescription: 10-Pin Plastic Small Outline, Body 3 x 3 mm, Pitch 0.5 mm; Supplier 1: Digi-Key; Supplier Part Number 1: 296-10848-2-ND; Supplier 2: Digi-Key; Supplier Part Number 2: 296-10848-1-ND; Supplier 3: Digi-Key; Supplier Part Number 3: 296-10848-6-ND; Supplier 4: Newark; Supplier Part Number 4: 76C9850; Supplier 5: Mouser; Supplier Part Number 5: 595-TPA6112A2DGQR; Eco-Plan: Green (RoHS & no Sb/Br); Headphone Channels: Stereo; Mounting Technology: Surface Mount; Code_JEDEC: MO-187; ComponentLink1Description: Manufacturer URL; ComponentLink1URL: http://www.ti.com/; ComponentLink2Description: Datasheet; ComponentLink2URL: http://www.ti.com/general/docs/lit/getliterature.tsp?genericPartNumber=TPA6112A2&fileType=pdf; ComponentLink3Description: Package Specification; ComponentLink3URL: http://www.ti.com/litv/pdf/mpds043e
footprint TI-DGQ10-1675X1445TP_N (SOP, 10-Leads, Body 3.1x3.1mm, Pitch 0.5mm, Thermal Pad 1.88x1.57mm, IPC Medium Density)
footprint TI-DGQ10-1675X1445TP_L (SOP, 10-Leads, Body 3.1x3.1mm, Pitch 0.5mm, Thermal Pad 1.88x1.57mm, IPC High Density)
footprint TI-DGQ10-1675X1445TP_M (SOP, 10-Leads, Body 3.1x3.1mm, Pitch 0.5mm, Thermal Pad 1.88x1.57mm, IPC Low Density)
pins: 1 VO1 (out) "VO1 is the audio output for channel 1.", 2 IN1- (in) "IN1- is the negative input for channel 1.", 3 IN1+ (in) "IN1+ is the positive input for channel 1.", 4 BYPASS "Tap to voltage divider for internal mid-supply bias supply. Connect to a 0.1 uF to 1 uF low ESR capacitor for best performance.", 5 GND (power) "GND is the ground connection.", 6 SHUTDOWN (in) "Puts the device in a low quiescent current mode when held high.", 7 IN2+ (in) "IN2+ is the positive input for channel 2.", 8 IN2- (in) "IN2- is the negative input for channel 2.", 9 VO2 (out) "VO2 is the audio output for channel 2.", 10 VDD (power) "VDD is the supply voltage terminal.", 11 EP

## TPA6112A2DGQRG4
designator U?
150-mW Stereo Headphone Audio Amplifier with Differential Input, -40 to 85 degC, 10-pin SOP (DGQ10), Green (RoHS & no Sb/Br); Manufacturer: Texas Instruments; PartNumber: TPA6112A2DGQRG4; ISD(uA): 10; Load(Min)(ohms): 16; Output Power(W): 0.15; PSRR(dB): 83; SubFamily: Headphone Amplifier; Supply Max(Max)(Volt): 5.5; Supply Min(Min)(Volt): 2.5; DatasheetVersion: SLOS342A; PackageVersion: 4073273/F, 11/2011; PackageReference: DGQ10-1675X1445TP; PackageDescription: 10-Pin Plastic Small Outline, Body 3 x 3 mm, Pitch 0.5 mm; Supplier 1: Digi-Key; Supplier Part Number 1: TPA6112A2DGQRG4-ND; Supplier 2: Newark; Supplier Part Number 2: 73J8374; Supplier 3: Mouser; Supplier Part Number 3: 595-TPA6112A2DGQRG4; Eco-Plan: Green (RoHS & no Sb/Br); Headphone Channels: Stereo; Mounting Technology: Surface Mount; Code_JEDEC: MO-187; ComponentLink1Description: Manufacturer URL; ComponentLink1URL: http://www.ti.com/; ComponentLink2Description: Datasheet; ComponentLink2URL: http://www.ti.com/general/docs/lit/getliterature.tsp?genericPartNumber=TPA6112A2&fileType=pdf; ComponentLink3Description: Package Specification; ComponentLink3URL: http://www.ti.com/litv/pdf/mpds043e
footprint TI-DGQ10-1675X1445TP_N (SOP, 10-Leads, Body 3.1x3.1mm, Pitch 0.5mm, Thermal Pad 1.88x1.57mm, IPC Medium Density)
footprint TI-DGQ10-1675X1445TP_L (SOP, 10-Leads, Body 3.1x3.1mm, Pitch 0.5mm, Thermal Pad 1.88x1.57mm, IPC High Density)
footprint TI-DGQ10-1675X1445TP_M (SOP, 10-Leads, Body 3.1x3.1mm, Pitch 0.5mm, Thermal Pad 1.88x1.57mm, IPC Low Density)
pins: 1 VO1 (out) "VO1 is the audio output for channel 1.", 2 IN1- (in) "IN1- is the negative input for channel 1.", 3 IN1+ (in) "IN1+ is the positive input for channel 1.", 4 BYPASS "Tap to voltage divider for internal mid-supply bias supply. Connect to a 0.1 uF to 1 uF low ESR capacitor for best performance.", 5 GND (power) "GND is the ground connection.", 6 SHUTDOWN (in) "Puts the device in a low quiescent current mode when held high.", 7 IN2+ (in) "IN2+ is the positive input for channel 2.", 8 IN2- (in) "IN2- is the negative input for channel 2.", 9 VO2 (out) "VO2 is the audio output for channel 2.", 10 VDD (power) "VDD is the supply voltage terminal.", 11 EP

## TPA6120A2DWP
designator U?
High Fidelity Stereo Headphone Amplifier, -40 to 85 degC, 20-pin SOP (DWP20), Green (RoHS & no Sb/Br); Manufacturer: Texas Instruments; PartNumber: TPA6120A2DWP; Load(Min)(ohms): 16; PSRR(dB): 75; Special Features: Hi-Fi; Supply Max(Max)(Volt): 30; Supply Min(Min)(Volt): 10; Volume Control: Yes; DatasheetVersion: SLOS431; PackageVersion: 4147575/C, 02/2005; PackageReference: DWP20-3730X2350TP; PackageDescription: 20-Pin PowerPAD(TM) Plastic Small-Outline Package, Body 12.825 x 7.52 mm, Pitch 1.27 mm; Supplier 1: Digi-Key; Supplier Part Number 1: 296-16920-5-ND; Supplier 2: Newark; Supplier Part Number 2: 01J0948; Supplier 3: Mouser; Supplier Part Number 3: 595-TPA6120A2DWP; Eco-Plan: Green (RoHS & no Sb/Br); Headphone Channels: Stereo; SubFamily: Headphone Amplifier; Mounting Technology: Surface Mount; ComponentLink1Description: Manufacturer URL; ComponentLink1URL: http://www.ti.com/; ComponentLink2Description: Datasheet; ComponentLink2URL: http://www.ti.com/general/docs/lit/getliterature.tsp?genericPartNumber=TPA6120A2&fileType=pdf; ComponentLink3Description: Package Specification; ComponentLink3URL: http://www.ti.com/litv/pdf/mpds032b
footprint TI-DWP20-3730X2350TP_N (SOP, 20-Leads, Body 12.825x7.52mm, Pitch 1.27mm, Thermal Pad 3.47X2.35mm, IPC Medium Density)
footprint TI-DWP20-3730X2350TP_L (SOP, 20-Leads, Body 12.825x7.52mm, Pitch 1.27mm, Thermal Pad 3.47X2.35mm, IPC High Density)
footprint TI-DWP20-3730X2350TP_M (SOP, 20-Leads, Body 12.825x7.52mm, Pitch 1.27mm, Thermal Pad 3.47X2.35mm, IPC Low Density)
part A pins: 1 LVCC- (power) "Left channel negative power supply - must be kept at the same potential as RVCC-.", 2 LOUT (out) "Left channel output", 3 LVCC+ (power) "Left channel positive power supply", 4 LIN+ (in) "Left channel positive input", 5 LIN- (in) "Left channel negative input", 16 RIN- (in) "Right channel negative input", 17 RIN+ (in) "Right channel positive input", 18 RVCC+ (power) "Right channel positive power supply", 19 ROUT (out) "Right channel output", 20 RVCC- (power) "Right channel negative power supply - must be kept at the same potential as LVCC-.", 21 EP (power) "Connect to ground. The thermal pad must be soldered down in all applications to properly secure device on the PCB."
part B pins: 6 NC "Not internally connected", 7 NC "Not internally connected", 8 NC "Not internally connected", 9 NC "Not internally connected", 10 NC "Not internally connected", 11 NC "Not internally connected", 12 NC "Not internally connected", 13 NC "Not internally connected", 14 NC "Not internally connected", 15 NC "Not internally connected"

## TPA6120A2DWPG4
designator U?
High Fidelity Stereo Headphone Amplifier, -40 to 85 degC, 20-pin SOP (DWP20), Green (RoHS & no Sb/Br); Manufacturer: Texas Instruments; PartNumber: TPA6120A2DWPG4; Load(Min)(ohms): 16; PSRR(dB): 75; Special Features: Hi-Fi; Supply Max(Max)(Volt): 30; Supply Min(Min)(Volt): 10; Volume Control: Yes; DatasheetVersion: SLOS431; PackageVersion: 4147575/C, 02/2005; PackageReference: DWP20-3730X2350TP; PackageDescription: 20-Pin PowerPAD(TM) Plastic Small-Outline Package, Body 12.825 x 7.52 mm, Pitch 1.27 mm; Supplier 1: Digi-Key; Supplier Part Number 1: 296-36165-5-ND; Supplier 2: Farnell; Supplier Part Number 2: 1207315; Supplier 3: Newark; Supplier Part Number 3: 24M8504; Supplier 4: Newark; Supplier Part Number 4: 85K1674; Supplier 5: Mouser; Supplier Part Number 5: 595-TPA6120A2DWPG4; Eco-Plan: Green (RoHS & no Sb/Br); Headphone Channels: Stereo; SubFamily: Headphone Amplifier; Mounting Technology: Surface Mount; ComponentLink1Description: Manufacturer URL; ComponentLink1URL: http://www.ti.com/; ComponentLink2Description: Datasheet; ComponentLink2URL: http://www.ti.com/general/docs/lit/getliterature.tsp?genericPartNumber=TPA6120A2&fileType=pdf; ComponentLink3Description: Package Specification; ComponentLink3URL: http://www.ti.com/litv/pdf/mpds032b
footprint TI-DWP20-3730X2350TP_N (SOP, 20-Leads, Body 12.825x7.52mm, Pitch 1.27mm, Thermal Pad 3.47X2.35mm, IPC Medium Density)
footprint TI-DWP20-3730X2350TP_L (SOP, 20-Leads, Body 12.825x7.52mm, Pitch 1.27mm, Thermal Pad 3.47X2.35mm, IPC High Density)
footprint TI-DWP20-3730X2350TP_M (SOP, 20-Leads, Body 12.825x7.52mm, Pitch 1.27mm, Thermal Pad 3.47X2.35mm, IPC Low Density)
part A pins: 1 LVCC- (power) "Left channel negative power supply - must be kept at the same potential as RVCC-.", 2 LOUT (out) "Left channel output", 3 LVCC+ (power) "Left channel positive power supply", 4 LIN+ (in) "Left channel positive input", 5 LIN- (in) "Left channel negative input", 16 RIN- (in) "Right channel negative input", 17 RIN+ (in) "Right channel positive input", 18 RVCC+ (power) "Right channel positive power supply", 19 ROUT (out) "Right channel output", 20 RVCC- (power) "Right channel negative power supply - must be kept at the same potential as LVCC-.", 21 EP (power) "Connect to ground. The thermal pad must be soldered down in all applications to properly secure device on the PCB."
part B pins: 6 NC "Not internally connected", 7 NC "Not internally connected", 8 NC "Not internally connected", 9 NC "Not internally connected", 10 NC "Not internally connected", 11 NC "Not internally connected", 12 NC "Not internally connected", 13 NC "Not internally connected", 14 NC "Not internally connected", 15 NC "Not internally connected"

## TPA6120A2DWPR
designator U?
High Fidelity Stereo Headphone Amplifier, -40 to 85 degC, 20-pin SOP (DWP20), Green (RoHS & no Sb/Br); Manufacturer: Texas Instruments; PartNumber: TPA6120A2DWPR; Load(Min)(ohms): 16; PSRR(dB): 75; Special Features: Hi-Fi; Supply Max(Max)(Volt): 30; Supply Min(Min)(Volt): 10; Volume Control: Yes; DatasheetVersion: SLOS431; PackageVersion: 4147575/C, 02/2005; PackageReference: DWP20-3730X2350TP; PackageDescription: 20-Pin PowerPAD(TM) Plastic Small-Outline Package, Body 12.825 x 7.52 mm, Pitch 1.27 mm; Supplier 1: Digi-Key; Supplier Part Number 1: TPA6120A2DWPR-ND; Supplier 2: Newark; Supplier Part Number 2: 01J0949; Supplier 3: Mouser; Supplier Part Number 3: 595-TPA6120A2DWPR; Eco-Plan: Green (RoHS & no Sb/Br); Headphone Channels: Stereo; SubFamily: Headphone Amplifier; Mounting Technology: Surface Mount; ComponentLink1Description: Manufacturer URL; ComponentLink1URL: http://www.ti.com/; ComponentLink2Description: Datasheet; ComponentLink2URL: http://www.ti.com/general/docs/lit/getliterature.tsp?genericPartNumber=TPA6120A2&fileType=pdf; ComponentLink3Description: Package Specification; ComponentLink3URL: http://www.ti.com/litv/pdf/mpds032b
footprint TI-DWP20-3730X2350TP_N (SOP, 20-Leads, Body 12.825x7.52mm, Pitch 1.27mm, Thermal Pad 3.47X2.35mm, IPC Medium Density)
footprint TI-DWP20-3730X2350TP_L (SOP, 20-Leads, Body 12.825x7.52mm, Pitch 1.27mm, Thermal Pad 3.47X2.35mm, IPC High Density)
footprint TI-DWP20-3730X2350TP_M (SOP, 20-Leads, Body 12.825x7.52mm, Pitch 1.27mm, Thermal Pad 3.47X2.35mm, IPC Low Density)
part A pins: 1 LVCC- (power) "Left channel negative power supply - must be kept at the same potential as RVCC-.", 2 LOUT (out) "Left channel output", 3 LVCC+ (power) "Left channel positive power supply", 4 LIN+ (in) "Left channel positive input", 5 LIN- (in) "Left channel negative input", 16 RIN- (in) "Right channel negative input", 17 RIN+ (in) "Right channel positive input", 18 RVCC+ (power) "Right channel positive power supply", 19 ROUT (out) "Right channel output", 20 RVCC- (power) "Right channel negative power supply - must be kept at the same potential as LVCC-.", 21 EP (power) "Connect to ground. The thermal pad must be soldered down in all applications to properly secure device on the PCB."
part B pins: 6 NC "Not internally connected", 7 NC "Not internally connected", 8 NC "Not internally connected", 9 NC "Not internally connected", 10 NC "Not internally connected", 11 NC "Not internally connected", 12 NC "Not internally connected", 13 NC "Not internally connected", 14 NC "Not internally connected", 15 NC "Not internally connected"

## TPA6120A2DWPRG4
designator U?
High Fidelity Stereo Headphone Amplifier, -40 to 85 degC, 20-pin SOP (DWP20), Green (RoHS & no Sb/Br); Manufacturer: Texas Instruments; PartNumber: TPA6120A2DWPRG4; Load(Min)(ohms): 16; PSRR(dB): 75; Special Features: Hi-Fi; Supply Max(Max)(Volt): 30; Supply Min(Min)(Volt): 10; Volume Control: Yes; DatasheetVersion: SLOS431; PackageVersion: 4147575/C, 02/2005; PackageReference: DWP20-3730X2350TP; PackageDescription: 20-Pin PowerPAD(TM) Plastic Small-Outline Package, Body 12.825 x 7.52 mm, Pitch 1.27 mm; Supplier 1: Digi-Key; Supplier Part Number 1: TPA6120A2DWPRG4-ND; Supplier 2: Mouser; Supplier Part Number 2: 595-TPA6120A2DWPRG4; Eco-Plan: Green (RoHS & no Sb/Br); Headphone Channels: Stereo; SubFamily: Headphone Amplifier; Mounting Technology: Surface Mount; ComponentLink1Description: Manufacturer URL; ComponentLink1URL: http://www.ti.com/; ComponentLink2Description: Datasheet; ComponentLink2URL: http://www.ti.com/general/docs/lit/getliterature.tsp?genericPartNumber=TPA6120A2&fileType=pdf; ComponentLink3Description: Package Specification; ComponentLink3URL: http://www.ti.com/litv/pdf/mpds032b
footprint TI-DWP20-3730X2350TP_N (SOP, 20-Leads, Body 12.825x7.52mm, Pitch 1.27mm, Thermal Pad 3.47X2.35mm, IPC Medium Density)
footprint TI-DWP20-3730X2350TP_L (SOP, 20-Leads, Body 12.825x7.52mm, Pitch 1.27mm, Thermal Pad 3.47X2.35mm, IPC High Density)
footprint TI-DWP20-3730X2350TP_M (SOP, 20-Leads, Body 12.825x7.52mm, Pitch 1.27mm, Thermal Pad 3.47X2.35mm, IPC Low Density)
part A pins: 1 LVCC- (power) "Left channel negative power supply - must be kept at the same potential as RVCC-.", 2 LOUT (out) "Left channel output", 3 LVCC+ (power) "Left channel positive power supply", 4 LIN+ (in) "Left channel positive input", 5 LIN- (in) "Left channel negative input", 16 RIN- (in) "Right channel negative input", 17 RIN+ (in) "Right channel positive input", 18 RVCC+ (power) "Right channel positive power supply", 19 ROUT (out) "Right channel output", 20 RVCC- (power) "Right channel negative power supply - must be kept at the same potential as LVCC-.", 21 EP (power) "Connect to ground. The thermal pad must be soldered down in all applications to properly secure device on the PCB."
part B pins: 6 NC "Not internally connected", 7 NC "Not internally connected", 8 NC "Not internally connected", 9 NC "Not internally connected", 10 NC "Not internally connected", 11 NC "Not internally connected", 12 NC "Not internally connected", 13 NC "Not internally connected", 14 NC "Not internally connected", 15 NC "Not internally connected"